# Altium schematic symbol library SML-P11VTT86R.SchLib: 1 symbol
Pins are listed as number, name and electrical type; pins without a type are passive.

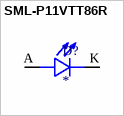
[diagram p0: symbol SML-P11VTT86R]

## SML-P11VTT86R
designator D?
Red 626nm LED Indication - Discrete 1.8V 0402 (1006 Metric); MF: Rohm; MP: SML-P11VTT86R; Purchase-URL: https://pricing.snapeda.com/search?q=SML-P11VTT86R&ref=eda; Package: 0402 Rohm; Check_prices: https://www.snapeda.com/parts/SML-P11VTT86R/Rohm/view-part/?ref=eda; Value: *; SnapEDA_Link: https://www.snapeda.com/parts/SML-P11VTT86R/Rohm/view-part/?ref=snap; Digi-Key_Part_Number: 846-SML-P11VTT86RTR-ND
footprint LED_SML-P11VTT86R
pins: A, K